# Altium footprint library SI2302.PcbLib: 1 footprints
Each footprint in its own frame and in the unit in brackets; x right, y up, seen from the top. Pads: shape width x height; smd on the part's side, far side on the other; paste and mask are expansions set on the pad; w line width, h text height; cw(c..) or ccw(c..) is an arc to the next point about the centre after c.
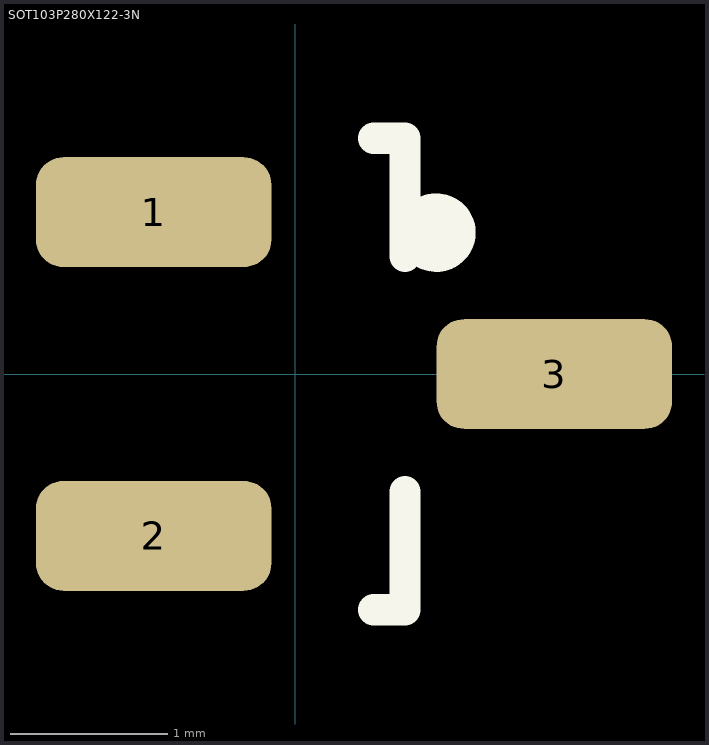
[diagram p0: the footprint, top view; thin cyan lines are the x and y axes]

## SOT103P280X122-3N [mm] "SOT23, 3-Leads, Body 3.0x2.8mm (max), Pitch 1.03mm, IPC Medium Density"
height 1.22
pads (3):
  rrect50% 1.5x0.7 smd: 1(-0.9,1.03) 2(-0.9,-1.03) 3(1.651,0)
Top Overlay:
  circle w0.25: c0.9,0.9 r0.125
  lines w0.2: 0.5,-1.5 0.7,-1.5 0.7,-0.75 ; 0.5,1.5 0.7,1.5 0.7,0.75